# Altium integrated library WCAP-ASLU_rev15a.intlib: 55 symbols (part 2 of 2)
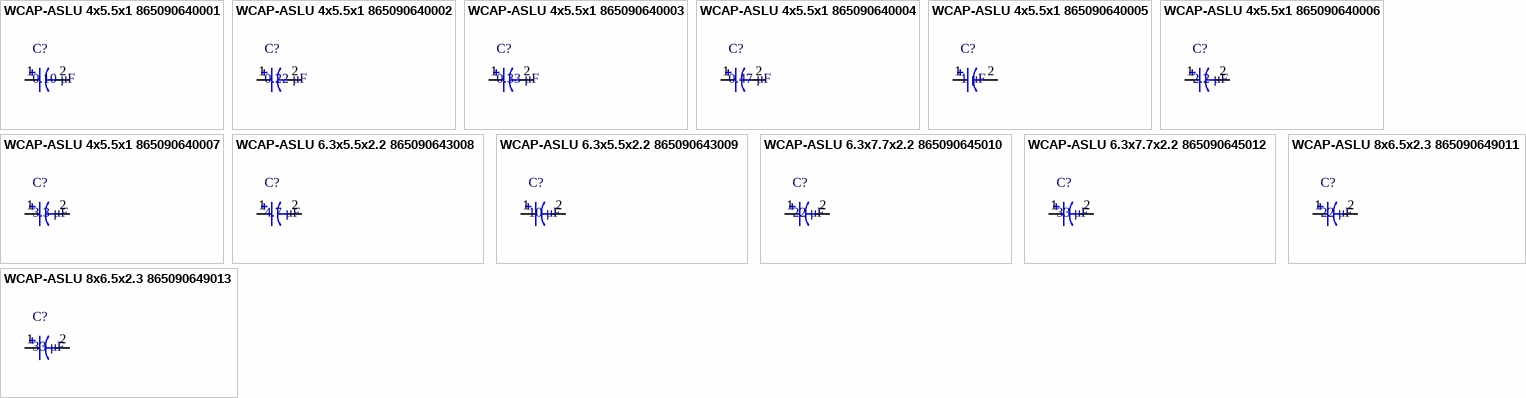
[diagram p6: symbols WCAP-ASLU 4x5.5x1 865090640001 to WCAP-ASLU 8x6.5x2.3 865090649013]

## WCAP-ASLU 4x5.5x1 865090640006
designator C?, comment 2.2 μF
WCAP-ASLU Aluminum Electrolytic Capacitors , 2,2 μF; + / - 20%; 50 V , 4 x 5,5; Manufacturer: Wurth Elektronik; partNo: 865090640006; E-mail: libraries@we-online.com; Characteristics: Aluminum Electrolytic Capacitor;Recommended soldering: Reflow;Operating temperature: –40 °C to +85 °C;Low leakage current product series;Load life: 1000 h @ +85 °C; ComponentLink1Description: Manufacturer; ComponentLink1URL: http://www.we-online.com; ComponentLink2Description: Datasheet; ComponentLink2URL: http://katalog.we-online.de/pbs/datasheet/865090640006.pdf; Created by: Karrer Zheng; Created Date: 5/13/2015; Capacitance: 2.2 μF; Application: Applied to loop with low requirements for leakage current, applied to general switching power supply, timer circuit, power module, DC-DC conversion adapter, charger, limited power supply of TV and VCR, audio equipment, digital TV, digital camera, digital video camera, satellite receiver.
footprint WCAP-ASLU 4x5.5x1
pins: 1, 2

## WCAP-ASLU 4x5.5x1 865090640007
designator C?, comment 3.3 μF
WCAP-ASLU Aluminum Electrolytic Capacitors , 3,3 μF; + / - 20%; 50 V , 4 x 5,5; Manufacturer: Wurth Elektronik; partNo: 865090640007; E-mail: libraries@we-online.com; Characteristics: Aluminum Electrolytic Capacitor;Recommended soldering: Reflow;Operating temperature: –40 °C to +85 °C;Low leakage current product series;Load life: 1000 h @ +85 °C; ComponentLink1Description: Manufacturer; ComponentLink1URL: http://www.we-online.com; ComponentLink2Description: Datasheet; ComponentLink2URL: http://katalog.we-online.de/pbs/datasheet/865090640007.pdf; Created by: Karrer Zheng; Created Date: 5/13/2015; Capacitance: 3.3 μF; Application: Applied to loop with low requirements for leakage current, applied to general switching power supply, timer circuit, power module, DC-DC conversion adapter, charger, limited power supply of TV and VCR, audio equipment, digital TV, digital camera, digital video camera, satellite receiver.
footprint WCAP-ASLU 4x5.5x1
pins: 1, 2

## WCAP-ASLU 6.3x5.5x2.2 865090643008
designator C?, comment 4.7 μF
WCAP-ASLU Aluminum Electrolytic Capacitors , 4,7 μF; + / - 20%; 50 V , 6,3 x 5,5; Manufacturer: Wurth Elektronik; partNo: 865090643008; E-mail: libraries@we-online.com; Characteristics: Aluminum Electrolytic Capacitor;Recommended soldering: Reflow;Operating temperature: –40 °C to +85 °C;Low leakage current product series;Load life: 1000 h @ +85 °C; ComponentLink1Description: Manufacturer; ComponentLink1URL: http://www.we-online.com; ComponentLink2Description: Datasheet; ComponentLink2URL: http://katalog.we-online.de/pbs/datasheet/865090643008.pdf; Created by: Karrer Zheng; Created Date: 5/13/2015; Capacitance: 4.7 μF; Application: Applied to loop with low requirements for leakage current, applied to general switching power supply, timer circuit, power module, DC-DC conversion adapter, charger, limited power supply of TV and VCR, audio equipment, digital TV, digital camera, digital video camera, satellite receiver.
footprint WCAP-ASLU 6.3x5.5x2.2
pins: 1, 2

## WCAP-ASLU 6.3x5.5x2.2 865090643009
designator C?, comment 10 μF
WCAP-ASLU Aluminum Electrolytic Capacitors , 10 μF; + / - 20%; 50 V , 6,3 x 5,5; Manufacturer: Wurth Elektronik; partNo: 865090643009; E-mail: libraries@we-online.com; Characteristics: Aluminum Electrolytic Capacitor;Recommended soldering: Reflow;Operating temperature: –40 °C to +85 °C;Low leakage current product series;Load life: 1000 h @ +85 °C; ComponentLink1Description: Manufacturer; ComponentLink1URL: http://www.we-online.com; ComponentLink2Description: Datasheet; ComponentLink2URL: http://katalog.we-online.de/pbs/datasheet/865090643009.pdf; Created by: Karrer Zheng; Created Date: 5/13/2015; Capacitance: 10 μF; Application: Applied to loop with low requirements for leakage current, applied to general switching power supply, timer circuit, power module, DC-DC conversion adapter, charger, limited power supply of TV and VCR, audio equipment, digital TV, digital camera, digital video camera, satellite receiver.
footprint WCAP-ASLU 6.3x5.5x2.2
pins: 1, 2

## WCAP-ASLU 6.3x7.7x2.2 865090645010
designator C?, comment 22 μF
WCAP-ASLU Aluminum Electrolytic Capacitors , 22 μF; + / - 20%; 50 V , 6,3 x 7,7; Manufacturer: Wurth Elektronik; partNo: 865090645010; E-mail: libraries@we-online.com; Characteristics: Aluminum Electrolytic Capacitor;Recommended soldering: Reflow;Operating temperature: –40 °C to +85 °C;Low leakage current product series;Load life: 1000 h @ +85 °C; ComponentLink1Description: Manufacturer; ComponentLink1URL: http://www.we-online.com; ComponentLink2Description: Datasheet; ComponentLink2URL: http://katalog.we-online.de/pbs/datasheet/865090645010.pdf; Created by: Karrer Zheng; Created Date: 5/13/2015; Capacitance: 22 μF; Application: Applied to loop with low requirements for leakage current, applied to general switching power supply, timer circuit, power module, DC-DC conversion adapter, charger, limited power supply of TV and VCR, audio equipment, digital TV, digital camera, digital video camera, satellite receiver.
footprint WCAP-ASLU 6.3x7.7x2.2
pins: 1, 2

## WCAP-ASLU 6.3x7.7x2.2 865090645012
designator C?, comment 33 μF
WCAP-ASLU Aluminum Electrolytic Capacitors , 33 μF; + / - 20%; 50 V , 6,3 x 7,7; Manufacturer: Wurth Elektronik; partNo: 865090645012; E-mail: libraries@we-online.com; Characteristics: Aluminum Electrolytic Capacitor;Recommended soldering: Reflow;Operating temperature: –40 °C to +85 °C;Low leakage current product series;Load life: 1000 h @ +85 °C; ComponentLink1Description: Manufacturer; ComponentLink1URL: http://www.we-online.com; ComponentLink2Description: Datasheet; ComponentLink2URL: http://katalog.we-online.de/pbs/datasheet/865090645012.pdf; Created by: Karrer Zheng; Created Date: 5/13/2015; Capacitance: 33 μF; Application: Applied to loop with low requirements for leakage current, applied to general switching power supply, timer circuit, power module, DC-DC conversion adapter, charger, limited power supply of TV and VCR, audio equipment, digital TV, digital camera, digital video camera, satellite receiver.
footprint WCAP-ASLU 6.3x7.7x2.2
pins: 1, 2

## WCAP-ASLU 8x6.5x2.3 865090649011
designator C?, comment 22 μF
WCAP-ASLU Aluminum Electrolytic Capacitors , 22 μF; + / - 20%; 50 V , 8 x 6,5; Manufacturer: Wurth Elektronik; partNo: 865090649011; E-mail: libraries@we-online.com; Characteristics: Aluminum Electrolytic Capacitor;Recommended soldering: Reflow;Operating temperature: –40 °C to +85 °C;Low leakage current product series;Load life: 1000 h @ +85 °C; ComponentLink1Description: Manufacturer; ComponentLink1URL: http://www.we-online.com; ComponentLink2Description: Datasheet; ComponentLink2URL: http://katalog.we-online.de/pbs/datasheet/865090649011.pdf; Created by: Karrer Zheng; Created Date: 5/13/2015; Capacitance: 22 μF; Application: Applied to loop with low requirements for leakage current, applied to general switching power supply, timer circuit, power module, DC-DC conversion adapter, charger, limited power supply of TV and VCR, audio equipment, digital TV, digital camera, digital video camera, satellite receiver.
footprint WCAP-ASLU 8x6.5x2.3
pins: 1, 2

## WCAP-ASLU 8x6.5x2.3 865090649013
designator C?, comment 33 μF
WCAP-ASLU Aluminum Electrolytic Capacitors , 33 μF; + / - 20%; 50 V , 8 x 6,5; Manufacturer: Wurth Elektronik; partNo: 865090649013; E-mail: libraries@we-online.com; Characteristics: Aluminum Electrolytic Capacitor;Recommended soldering: Reflow;Operating temperature: –40 °C to +85 °C;Low leakage current product series;Load life: 1000 h @ +85 °C; ComponentLink1Description: Manufacturer; ComponentLink1URL: http://www.we-online.com; ComponentLink2Description: Datasheet; ComponentLink2URL: http://katalog.we-online.de/pbs/datasheet/865090649013.pdf; Created by: Karrer Zheng; Created Date: 5/13/2015; Capacitance: 33 μF; Application: Applied to loop with low requirements for leakage current, applied to general switching power supply, timer circuit, power module, DC-DC conversion adapter, charger, limited power supply of TV and VCR, audio equipment, digital TV, digital camera, digital video camera, satellite receiver.
footprint WCAP-ASLU 8x6.5x2.3
pins: 1, 2